# EAGLE library part MOTOR_DRIVER_DEV (library Motor_Driver_TB6612FNG)
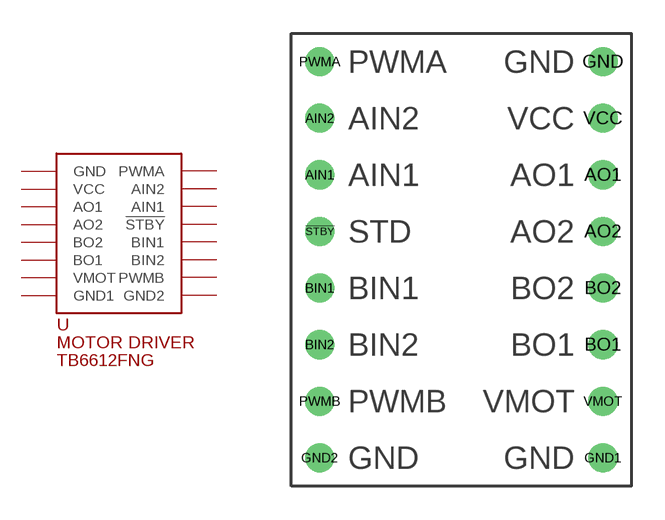
[diagram p0: symbol with the pads of MOTOR_DRIVER; footprint MOTOR_DRIVER]

Designator prefix -

## MOTOR_DRIVER_DEV  [MOTOR_DRIVER]
!STBY  !STBY
AIN1  AIN1
AIN2  AIN2
AO1  AO1
AO2  AO2
BIN1  BIN1
BIN2  BIN2
BO1  BO1
BO2  BO2
GND  GND
GND1  GND1
GND2  GND2
PWMA  PWMA
PWMB  PWMB
VCC  VCC
VMOT  VMOT

## Footprint MOTOR_DRIVER (pad centres in mm)
drill 0.8: !STBY -6.35,1.27; AIN1 -6.35,3.81; AIN2 -6.35,6.35; AO1 6.35,3.81; AO2 6.35,1.27; BIN1 -6.35,-1.27; BIN2 -6.35,-3.81; BO1 6.35,-3.81; BO2 6.35,-1.27; GND 6.35,8.89; GND1 6.35,-8.89; GND2 -6.35,-8.89; PWMA -6.35,8.89; PWMB -6.35,-6.35; VCC 6.35,6.35; VMOT 6.35,-6.35